# EAGLE library part LM2586-ADJ (library Traficon)
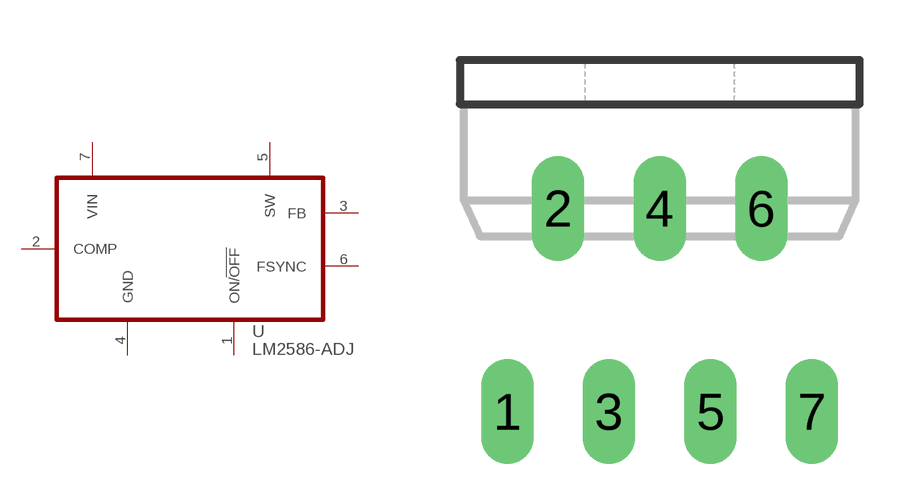
[diagram p257: symbol with the pads of TO220-7; footprint TO220-7]

Designator prefix U

## LM2586-ADJ  [TO220-7]
1  ON/!OFF
2  COMP
3  FB
4  GND
5  SW
6  FSYNC
7  VIN

## Footprint TO220-7 (pad centres in mm)
drill 0.8 long: 1 -3.81,-3.81; 2 -2.54,1.27; 3 -1.27,-3.81; 4 0,1.27; 5 1.27,-3.81; 6 2.54,1.27; 7 3.81,-3.81